# Altium footprint library gini_base_pcb.PCBLIB: 175 footprints (part 9 of 11)
Each footprint in its own frame and in the unit in brackets; x right, y up, seen from the top. Pads: shape width x height; smd on the part's side, far side on the other; paste and mask are expansions set on the pad; w line width, h text height; cw(c..) or ccw(c..) is an arc to the next point about the centre after c.
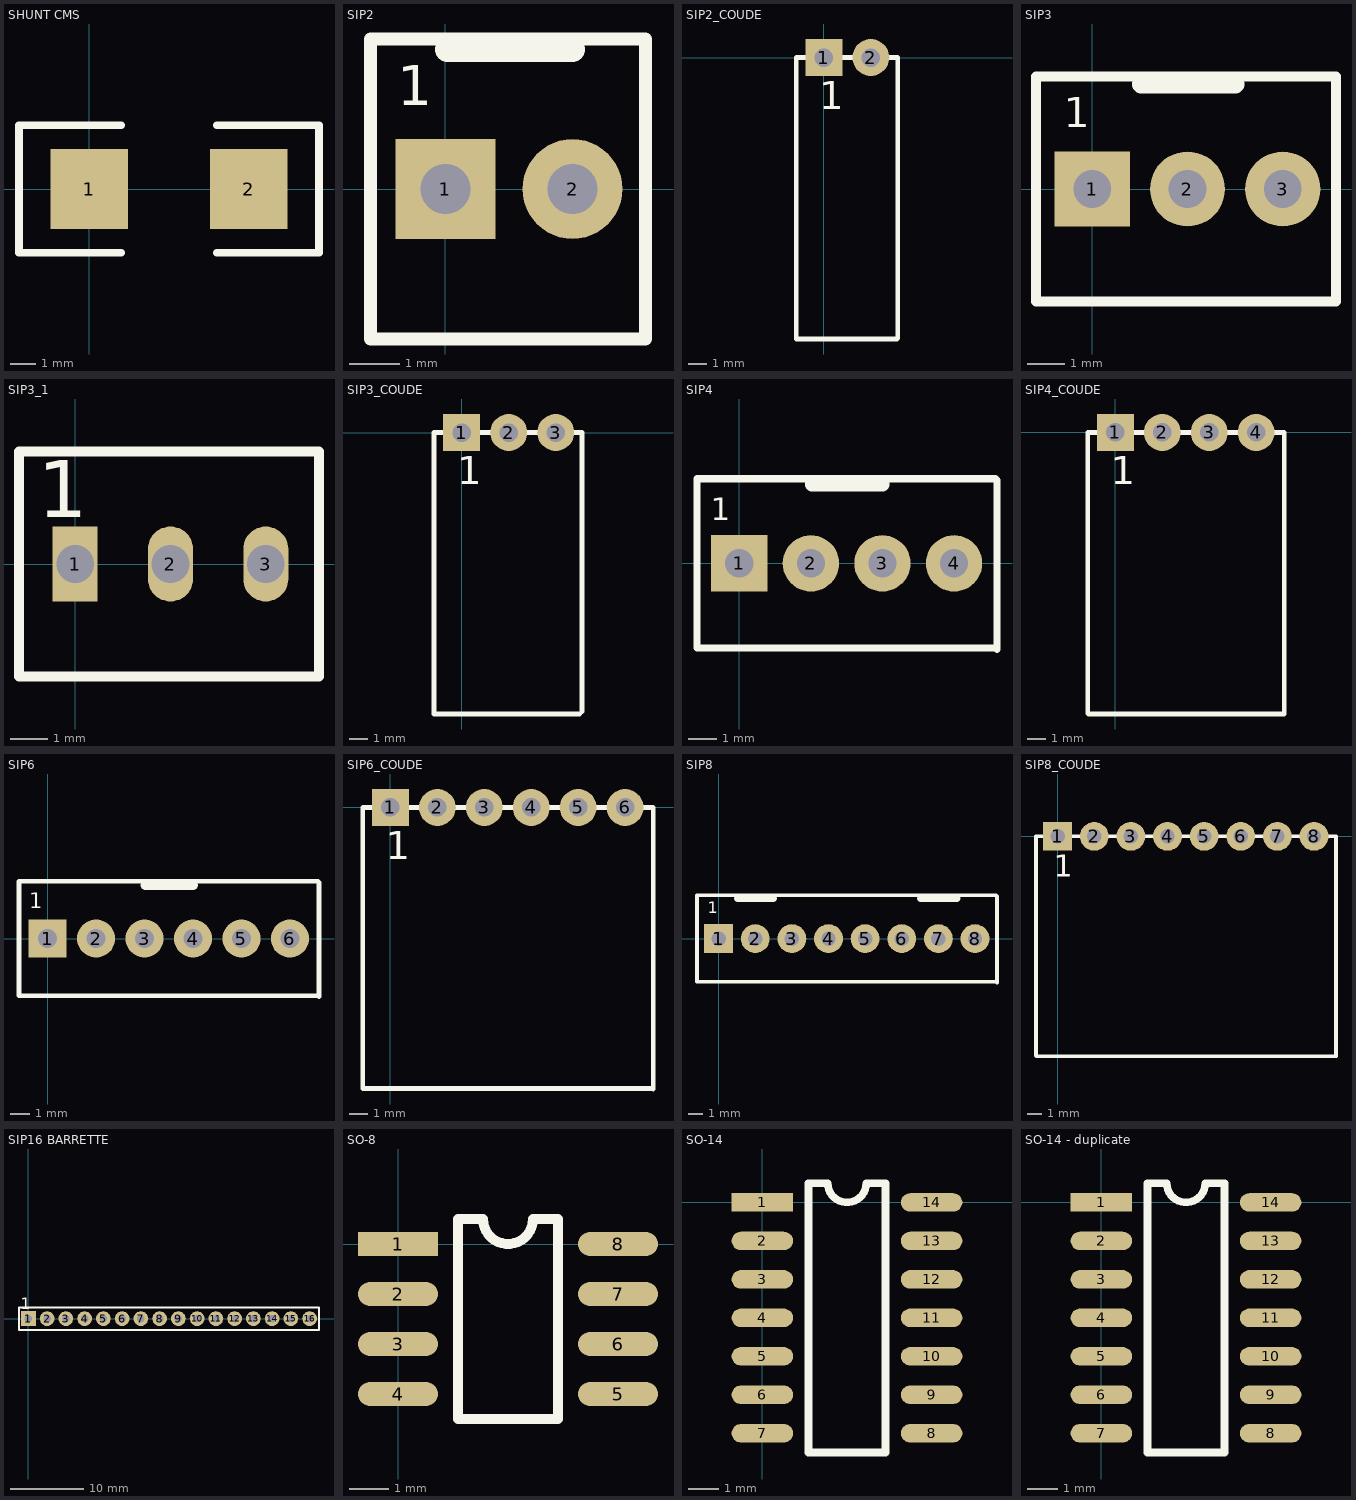
[diagram p8: the footprints below, top view; thin cyan lines are the x and y axes]

## SHUNT CMS [mm]
pads (2):
  rect 3.07x3.2 smd: 1(0,0) 2(6.35,0)
TopOverlay:
  lines w0.305: 1.27,-2.54 -2.794,-2.54 -2.794,2.54 1.27,2.54 ; 5.08,-2.54 9.144,-2.54 9.144,2.54 5.08,2.54

## SIP2 [mm]
pads (2):
  rect 2x2 hole 1: 1(0,0)
  round 2 hole 1: 2(2.54,0)
TopOverlay:
  lines w0.254: -1.5,-3 -1.5,3 4,3 4,-3 -1.5,-3
  lines w0.5: 0.04,2.794 2.54,2.794
  text "1" at -0.965,1.676 h0.8
3D body: height 11.7, standoff -3.54, extent -1.27,-2.972 3.81,2.87

## SIP2_COUDE [mm]
pads (2):
  rect 2x2 hole 1: 1(0,0)
  round 2 hole 1: 2(2.54,0)
TopOverlay:
  lines w0.254: 3.96,-15.216 -1.5,-15.216 -1.5,0 4,0 4,-15.176
  text "1" at -0.254,-2.794 h1.52

## SIP3 [mm]
pads (3):
  rect 2x2 hole 1: 1(0,0)
  round 2 hole 1: 2(2.54,0) 3(5.08,0)
TopOverlay:
  lines w0.254: -1.5,-3 6.5,-3 6.5,3 -1.5,3 -1.5,-3
  lines w0.5: 1.31,2.794 3.81,2.794
  text "1" at -0.762,1.651 h0.8
3D body: height 10.69, standoff -3.53, extent -1.27,-3.175 6.35,3.175

## SIP3_1 [mm]
pads (3):
  rect 1.2x2 hole 1: 1(0,0)
  oval 1.2x2 hole 1: 2(2.54,0) 3(5.08,0)
TopOverlay:
  lines w0.254: -1.5,-3 6.5,-3 6.5,3 -1.5,3 -1.5,-3
  text "1" at -1,1.25 h1.52

## SIP3_COUDE [mm]
pads (3):
  rect 2x2 hole 1: 1(0,0)
  round 2 hole 1: 2(2.54,0) 3(5.08,0)
TopOverlay:
  lines w0.254: 6.374,-15.216 -1.5,-15.216 -1.5,0 6.5,0 6.5,-15.09
  text "1" at -0.254,-2.794 h1.52

## SIP4 [mm]
pads (4):
  rect 2x2 hole 1: 1(0,0)
  round 2 hole 1: 2(2.54,0) 3(5.08,0) 4(7.62,0)
TopOverlay:
  lines w0.254: 9.096,-3 -1.5,-3 -1.5,3 9.096,3 ; 9.144,-3.048 9.144,2.952
  lines w0.5: 2.58,2.794 5.08,2.794
  text "1" at -1.016,1.524 h0.8
3D body: height 11.7, standoff -3.54, extent -1.245,-2.972 8.915,2.87

## SIP4_COUDE [mm]
pads (4):
  rect 2x2 hole 1: 1(0,0)
  round 2 hole 1: 2(2.54,0) 3(5.08,0) 4(7.62,0)
TopOverlay:
  lines w0.254: -1.5,-15.216 -1.5,0 9.144,0 9.144,-15.24 -1.476,-15.24
  text "1" at -0.254,-2.794 h1.52

## SIP6 [mm]
pads (6):
  rect 2x2 hole 1: 1(0,0)
  round 2 hole 1: 2(2.54,0) 3(5.08,0) 4(7.62,0) 5(10.16,0) 6(12.7,0)
TopOverlay:
  lines w0.254: 14.176,-3 9.096,-3 -1.5,-3 -1.5,3 9.096,3 14.176,3 ; 14.224,-3.048 14.224,2.952
  lines w0.5: 5.12,2.794 7.62,2.794
  text "1" at -0.965,1.6 h0.8
3D body: height 11.8, standoff -3.44, extent -1.27,-3.048 13.97,2.794

## SIP6_COUDE [mm]
pads (6):
  rect 2x2 hole 1: 1(0,0)
  round 2 hole 1: 2(2.54,0) 3(5.08,0) 4(7.62,0) 5(10.16,0) 6(12.7,0)
TopOverlay:
  lines w0.254: -1.5,-15.216 -1.5,0 14.224,0 14.224,-15.24 14.2,-15.216 -1.5,-15.216
  text "1" at -0.254,-2.794 h1.52

## SIP8 [mm]
pads (8):
  rect 2x2 hole 1: 1(0,0)
  round 2 hole 1: 2(2.54,0) 3(5.08,0) 4(7.62,0) 5(10.16,0) 6(12.7,0) 7(15.24,0) 8(17.78,0)
TopOverlay:
  lines w0.254: 19.256,-3 9.096,-3 -1.5,-3 -1.5,3 9.096,3 19.256,3 ; 19.304,-3.048 19.304,2.952
  lines w0.5: 1.31,2.794 3.81,2.794 ; 14.01,2.794 16.51,2.794
  text "1" at -0.762,1.778 h0.8
3D body: height 11.7, standoff -3.54, extent -1.27,-2.921 19.05,2.921

## SIP8_COUDE [mm]
pads (8):
  rect 2x2 hole 1: 1(0,0)
  round 2 hole 1: 2(2.54,0) 3(5.08,0) 4(7.62,0) 5(10.16,0) 6(12.7,0) 7(15.24,0) 8(17.78,0)
TopOverlay:
  lines w0.254: -1.5,-15.216 -1.5,0 19.304,0 19.304,-15.24 -1.476,-15.24
  text "1" at -0.254,-2.794 h1.52

## SIP16 BARRETTE [mm]
pads (16):
  rect 2x2 hole 1: 1(0,0)
  round 2 hole 1: 2(2.54,0) 3(5.08,0) 4(7.62,0) 5(10.16,0) 6(12.7,0) 7(15.24,0) 8(17.78,0) 9(20.32,0) 10(22.86,0) 11(25.4,0) 12(27.94,0) 13(30.48,0) 14(33.02,0) 15(35.56,0) 16(38.1,0)
TopOverlay:
  lines w0.254: -1.27,-1.524 -1.27,1.524 39.37,1.524 39.37,-1.524 -1.27,-1.524
  text "1" at -1,1.25 h1.52

## SO-8 [mil]
pads (8):
  rect 80x24 smd: 1(0,0)
  oval 80x24 smd: 2(0,-50) 3(0,-100) 4(0,-150) 5(220,-150) 6(220,-100) 7(220,-50) 8(220,0)
TopOverlay:
  lines w10: 60,-175 60,25 85,25 ccw(c110,25) 135,25 160,25 160,-175 60,-175
3D body: height 69.42, standoff 0, extent -10.8,-171.26 230.81,21.26

## SO-14 [mil]
pads (14):
  rect 80x24 smd: 1(0,0)
  oval 80x24 smd: 2(0,-50) 3(0,-100) 4(0,-150) 5(0,-200) 6(0,-250) 7(0,-300) 8(220,-300) 9(220,-250) 10(220,-200) 11(220,-150) 12(220,-100) 13(220,-50) 14(220,0)
TopOverlay:
  lines w10: 60,-325 160,-325 160,25 135,25 cw(c110,25) 85,25 60,25 60,-325
3D body: height 69.42, standoff 0, extent -9.8,-321.26 231.81,21.26

## SO-14 - duplicate [mil]
pads (14):
  rect 80x24 smd: 1(0,0)
  oval 80x24 smd: 2(0,-50) 3(0,-100) 4(0,-150) 5(0,-200) 6(0,-250) 7(0,-300) 8(220,-300) 9(220,-250) 10(220,-200) 11(220,-150) 12(220,-100) 13(220,-50) 14(220,0)
TopOverlay:
  lines w10: 60,-325 160,-325 160,25 135,25 cw(c110,25) 85,25 60,25 60,-325
3D body: height 69.42, standoff 0, extent -9.8,-321.26 231.81,21.26